# EAGLE library part USB4110-GF-A (library Hector_Watch)
CONN USB 2.0 TYPE-C R/A SMT Source: Datasheet <https://gct.co/files/drawings/usb4110.pdf>
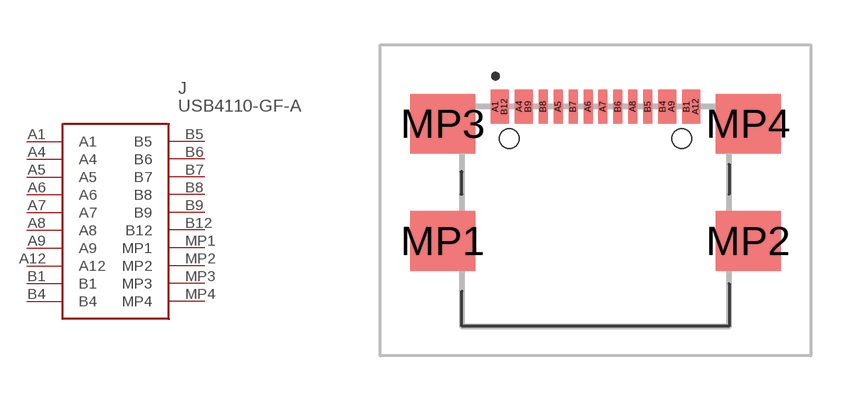
[diagram p5: symbol with the pads of USB4110GFA; footprint USB4110GFA]

Designator prefix J

## USB4110-GF-A (DESCRIPTION: CONN USB 2.0 TYPE-C R/A SMT; HEIGHT: 3.26mm; MANUFACTURER_NAME: GCT (GLOBAL CONNECTOR TECHNOLOGY); MANUFACTURER_PART_NUMBER: USB4110-GF-A; MOUSER_PART_NUMBER: 640-USB4110-GF-A; MOUSER_PRICE-STOCK: https://www.mouser.co.uk/ProductDetail/GCT/USB4110-GF-A?qs=KUoIvG%2F9IlYiZvIXQjyJeA%3D%3D)  [USB4110GFA]
A1  A1
A4  A4
A5  A5
A6  A6
A7  A7
A8  A8
A9  A9
A12  A12
B1  B1
B4  B4
B5  B5
B6  B6
B7  B7
B8  B8
B9  B9
B12  B12
MP1  MP1
MP2  MP2
MP3  MP3
MP4  MP4

## Footprint USB4110GFA (pad centres in mm)
USB4110-GF-A-1
smd 0.3 x 1.15: A1 -3.35,3.678; A4 -2.55,3.678; A5 -1.25,3.678; A6 -0.25,3.678; A7 0.25,3.678; A8 1.25,3.678; A9 2.55,3.678; A12 3.35,3.678; B1 3.05,3.678; B4 2.25,3.678; B5 1.75,3.678; B6 0.75,3.678; B7 -0.75,3.678; B8 -1.75,3.678; B9 -2.25,3.678; B12 -3.05,3.678
smd 2.18 x 2: MP1 -5.11,-0.827; MP2 5.11,-0.827; MP3 -5.11,3.103; MP4 5.11,3.103
hole 0.65 at -2.89,2.603
hole 0.65 at 2.89,2.603